# Altium footprint library Battery.PcbLib: 5 footprints
Each footprint in its own frame and in the unit in brackets; x right, y up, seen from the top. Pads: shape width x height; smd on the part's side, far side on the other; paste and mask are expansions set on the pad; w line width, h text height; cw(c..) or ccw(c..) is an arc to the next point about the centre after c.
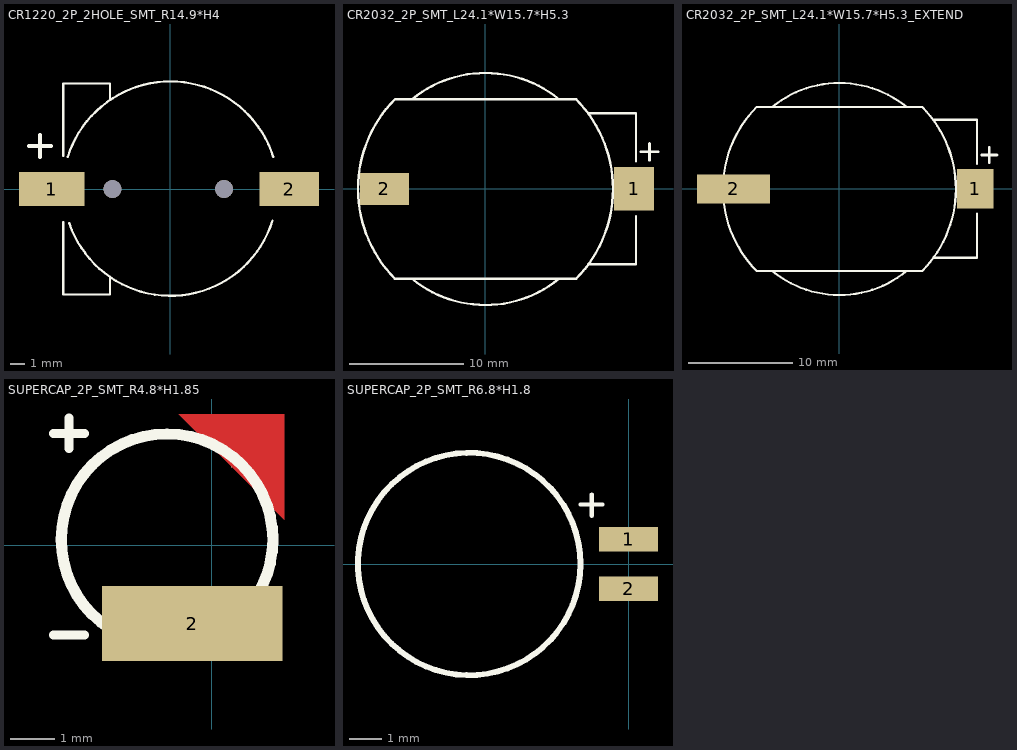
[diagram p0: the footprints below, top view; thin cyan lines are the x and y axes]

## CR1220_2P_2HOLE_SMT_R14.9*H4 [mm]
pads (4):
  rect 4.4x2.3 smd paste+0 mask+0.05: 1(-8,0)
  rect 4x2.3 smd paste+0 mask+0.05: 2(8,0)
  round 1.2 hole 1.2: ""(-3.912,0) ""(3.607,0)
Top Overlay:
  lines w0.15: -7.22,-2.231 -7.22,-7.112 -4.064,-7.112 -4.064,-5.996 ; -7.22,2.231 -7.22,7.112 -4.064,7.112 -4.064,6.069 ; -6.911,2.175 cw(c0,0) 6.918,2.154 ; -6.815,-2.297 ccw(c0,0) 6.871,-2.124
  lines w0.25: -9.525,2.895 -8.052,2.895 ; -8.788,2.159 -8.788,3.632

## CR2032_2P_SMT_L24.1*W15.7*H5.3 [mm]
pads (2):
  rect 3.5x3.8 smd paste+0 mask+0.05: 1(13.005,0.025)
  rect 4.3x2.8 smd paste+0 mask+0.05: 2(-8.839,0)
Top Overlay:
  lines w0.203: -7.925,-7.85 7.925,-7.849 ; -7.919,-7.85 cw(c0,0) -7.909,7.859 ; -7.899,7.849 7.925,7.849 ; -6.435,-7.849 ccw(c0,0) 6.417,-7.864 ; -6.417,7.864 cw(c0,0) 6.436,7.849 ; 7.909,-7.859 ccw(c0,0) 7.919,7.849 ; 8.992,-6.579 13.157,-6.579 13.157,-2.362 ; 8.992,6.629 13.157,6.629 13.157,2.413
  lines w0.25: 13.614,3.252 15.088,3.252 ; 14.351,2.515 14.351,3.988
3D body "s8421-45r.stp": height 5.42, standoff 0.02, extent -11.366,-7.798 13.284,7.797

## CR2032_2P_SMT_L24.1*W15.7*H5.3_EXTEND [mm]
pads (2):
  rect 3.5x3.8 smd paste+0 mask+0.05: 1(13.005,0.026)
  rect 7x2.8 smd paste+0 mask+0.05: 2(-10.135,0)
Top Overlay:
  lines w0.203: -7.925,-7.849 7.925,-7.848 ; -7.919,-7.849 cw(c0,0) -7.909,7.859 ; -7.899,7.849 7.925,7.849 ; -6.435,-7.849 ccw(c0,0) 6.417,-7.864 ; -6.417,7.864 cw(c0,0) 6.435,7.849 ; 7.909,-7.859 ccw(c0,0) 7.919,7.849 ; 8.992,-6.578 13.157,-6.578 13.157,-2.362 ; 8.992,6.63 13.157,6.63 13.157,2.413
  lines w0.25: 13.614,3.252 15.088,3.252 ; 14.351,2.515 14.351,3.989
3D body "s8421-45r.stp": height 5.4, standoff 0, extent -11.366,-7.797 13.284,7.798

## SUPERCAP_2P_SMT_R4.8*H1.85 [mil]
pads (2):
  round 1 smd: 1(17.5,70)
  rect 161.42x66.93 smd: 2(-17.5,-70)
Top Layer:
  region: 22.5,65 -29.74,117.24 64.74,117.24 64.74,22.76
Top Overlay:
  circle w10: c-40,5 r94.49
  lines w8: -141.28,-80 -127.5,-80 -113.72,-80 ; -141.28,100 -127.5,100 ; -127.5,86.22 -127.5,100 ; -127.5,113.78 -127.5,100 ; -113.72,100 -127.5,100
3D body "User Library-XH414H-IV01E.STEP": height 65.35, standoff 1.38, extent -134.49,-89.49 54.53,99.49

## SUPERCAP_2P_SMT_R6.8*H1.8 [mm]
pads (2):
  rect 1.801x0.75 smd: 1(0,0.75) 2(0,-0.75)
Top Overlay:
  circle w0.178: c-4.875,0 r3.401
  lines w0.127: -1.475,1.825 -0.8,1.825 ; -1.125,1.475 -1.125,2.125